# EAGLE library part LTC4263* (library linear-technology-3)
Single IEEE 802.3af Compliant PSE Controller with Internal Switch
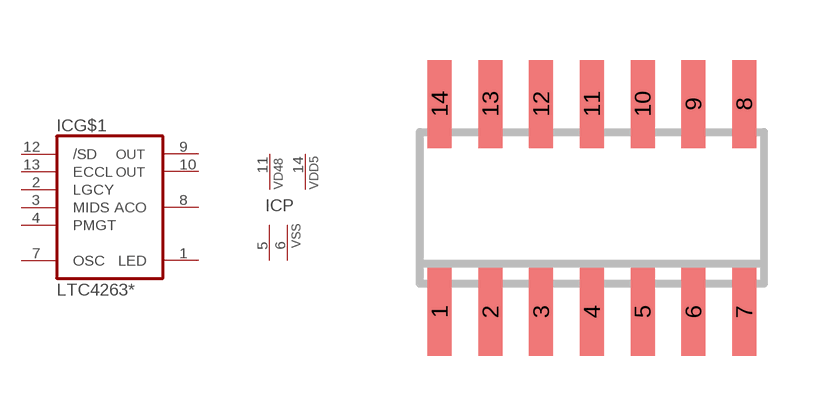
[diagram p50: symbol with the pads of SO14; footprint SO14]

Designator prefix IC; gates G$1=LTC4263 P=PWRN-D-D-SS

## LTC4263CS, LTC4263IS  [SO14]
1  G$1:LED  oc
2  G$1:LGCY  in
3  G$1:MIDS  in
4  G$1:PMGT
5  P:VSS  pwr
6  P:VSS  pwr
7  G$1:OSC  pas
8  G$1:ACO  out
9  G$1:OUT  out
10  G$1:OUT  out
11  P:VD48  pas
12  G$1:/SD  in
13  G$1:ECCL  in
14  P:VDD5  pas

## Footprint SO14 (pad centres in mm)
smd 0.6 x 2.2: 1 -3.81,-2.6; 2 -2.54,-2.6; 3 -1.27,-2.6; 4 0,-2.6; 5 1.27,-2.6; 6 2.54,-2.6; 7 3.81,-2.6; 8 3.81,2.6; 9 2.54,2.6; 10 1.27,2.6; 11 0,2.6; 12 -1.27,2.6; 13 -2.54,2.6; 14 -3.81,2.6